# Altium schematic symbol library TPS61090.SchLib: 1 symbol
Pins are listed as number, name and electrical type; pins without a type are passive.

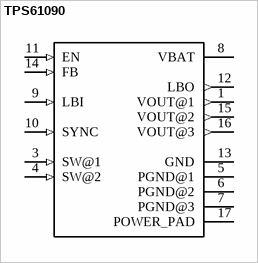
[diagram p0: symbol TPS61090]

## TPS61090
designator U?  (value not drawn)
the tps6109x devices provide a power supply solution for products powered by either a one-cell li-ion or li-polymer o...; MF: Texas Instruments; Price: None; Availability: Unavailable; MP: TPS61090; Package: QFN-16 Texas Instruments; Value: *
footprint QFN65P400X400X100-17N
pins: 1 VOUT@1 (out), 3 SW@1 (in), 4 SW@2 (in), 5 PGND@1 (power), 6 PGND@2 (power), 7 PGND@3 (power), 8 VBAT (power), 9 LBI (in), 10 SYNC (in), 11 EN (in), 12 LBO (out), 13 GND (power), 14 FB (in), 15 VOUT@2 (out), 16 VOUT@3 (out), 17 POWER_PAD (power)